# Altium footprint library PcbLib1.PcbLib: 4 footprints
Each footprint in its own frame and in the unit in brackets; x right, y up, seen from the top. Pads: shape width x height; smd on the part's side, far side on the other; paste and mask are expansions set on the pad; w line width, h text height; cw(c..) or ccw(c..) is an arc to the next point about the centre after c.
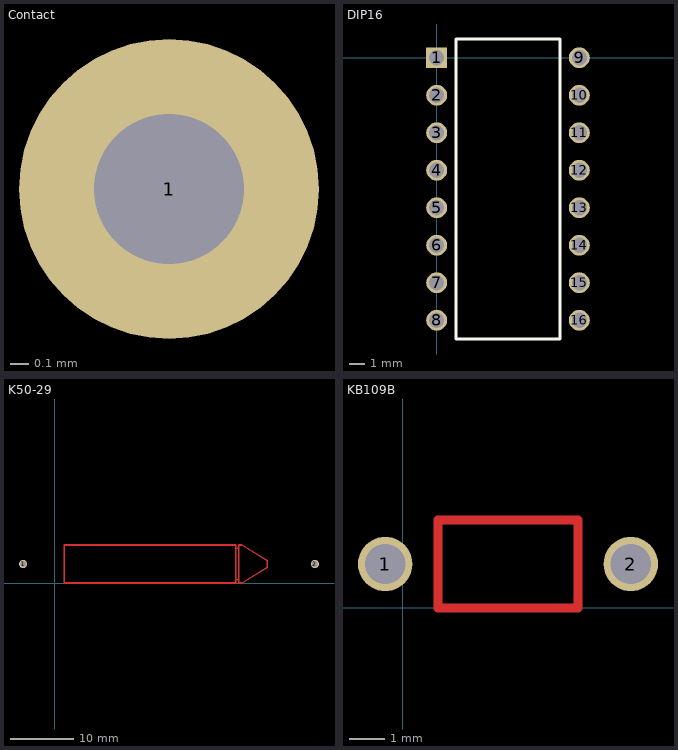
[diagram p0: the footprints below, top view; thin cyan lines are the x and y axes]

## Contact [mm]
pads (1):
  round 1.6 hole 0.8: 1(-98.25,-64.5)

## DIP16 [mm]
pads (16):
  rect 1.4x1.4 hole 1: 1(0,0)
  round 1.4 hole 1: 2(0,-2.5) 3(0,-5) 4(0,-7.5) 5(0,-10) 6(0,-12.5) 7(0,-15) 8(0,-17.5) 9(9.5,0) 10(9.5,-2.5) 11(9.5,-5) 12(9.5,-7.5) 13(9.5,-10) 14(9.5,-12.5) 15(9.5,-15) 16(9.5,-17.5)
Top Overlay:
  lines w0.2: 1.285,-18.75 1.285,1.25 3.125,1.25 6.625,1.25 8.215,1.25 8.215,-18.75 1.285,-18.75
3D body "LM1800.stp": height 5.5, standoff -7.1, extent -0.204,-19.773 9.694,2.227

## K50-29 [mm]
pads (2):
  round 1.3 hole 0.9: 1(-5,3) 2(41,3)
Top Layer:
  lines w0.254: 28.5,0.5 29,0.5 ; 28.5,5.5 29,5.5 ; 1.5,0 1.5,6 28.5,6 28.5,0 1.5,0 ; 29,0 29.5,0 33.5,2.5 33.5,3 33.5,3.5 29.5,6 29,6 29,5 29,1 29,0
3D body "K50 – 29.stp": height 6.99, standoff -14.94, extent -5.336,0 41.336,6

## KB109B [mm]
pads (2):
  round 1.55 hole 1.15: 1(-0.5,1.25) 2(6.5,1.25)
Top Layer:
  lines w0.254: 1,0 1,2.5 5,2.5 5,0 1,0
3D body "KB109B.stp": height 3.55, standoff -4.4, extent -0.5,0 6.5,2.5